# Altium schematic symbol library BAT60A.SchLib: 1 symbol
Pins are listed as number, name and electrical type; pins without a type are passive.

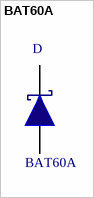
[diagram p0: symbol BAT60A]

## BAT60A
designator D  value BAT60A  (hidden comment: *)
Manufacturer: ST Microelectronics; Manufacturer Code: BAT60JFILM; Current: 3A; Forward Voltage Drop (10mA): 280mV; Farnell Code: 1467544; Unit Price: 0,37 €
footprint 1206
pins: 1, 2